# EAGLE library part MAX9814 (library 1AA_Stofer)
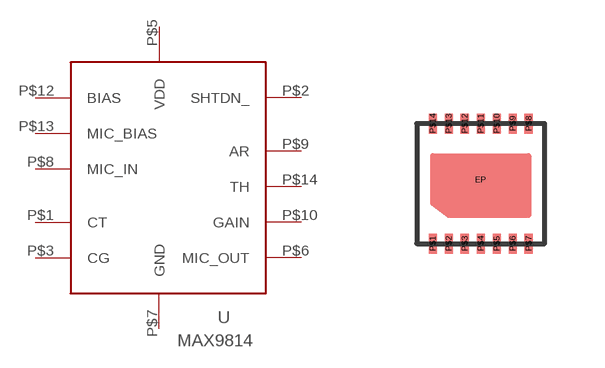
[diagram p22: symbol with the pads of DFN_14; footprint DFN_14]

Designator prefix -

## MAX9814  [DFN_14]
P$1  CT
P$2  SHTDN_
P$3  CG
P$5  VDD
P$6  MIC_OUT
P$7  GND
P$8  MIC_IN
P$9  AR
P$10  GAIN
P$12  BIAS
P$13  MIC_BIAS
P$14  TH

## Footprint DFN_14 (pad centres in mm)
smd 0.5 x 0.2: EP 1.6,1.6
smd 0.2 x 0.5: P$1 0.4,0; P$2 0.8,0; P$3 1.2,0; P$4 1.6,0; P$5 2,0; P$6 2.4,0; P$7 2.8,0; P$8 2.8,3; P$9 2.4,3; P$10 2,3; P$11 1.6,3; P$12 1.2,3; P$13 0.8,3; P$14 0.4,3